# EAGLE library part 3B7 (library wheat)
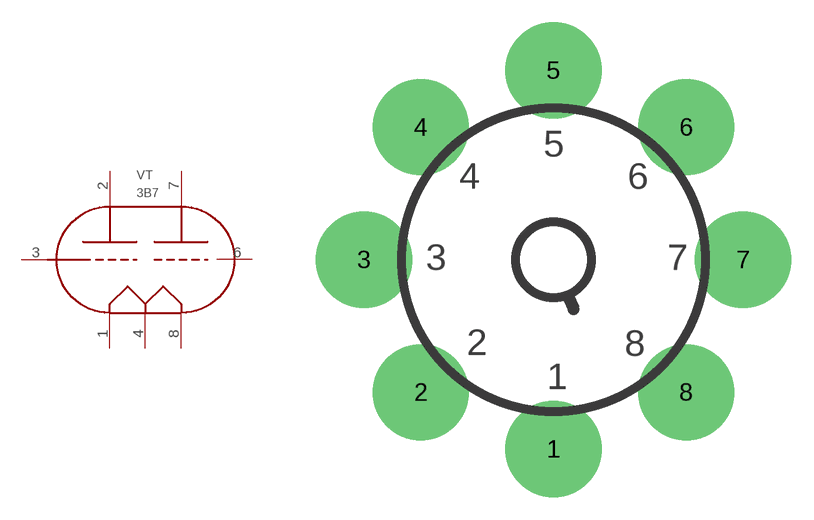
[diagram p248: symbol with the pads of OCTAL_BOTTOM; footprint OCTAL_BOTTOM]

Designator prefix VT

## 3B7  [OCTAL_BOTTOM]
1  F1  pas
2  1P  pas
3  1G  pas
4  FCT  pas
6  2G  pas
7  2P  pas
8  F2  pas

## Footprint OCTAL_BOTTOM (pad centres in mm)
TUBE SOCKET, OCTAL, PCB, BOTTOM SIDE
drill 2.54 pad 6.452: 1 0,-12.7; 2 -8.89,-8.89; 3 -12.7,0; 4 -8.89,8.89; 5 0,12.7; 6 8.89,8.89; 7 12.7,0; 8 8.89,-8.89